# EAGLE library part 82532 (library micro-siemens)
MICROPROCESSOR/PERIPHERAL DEVICE
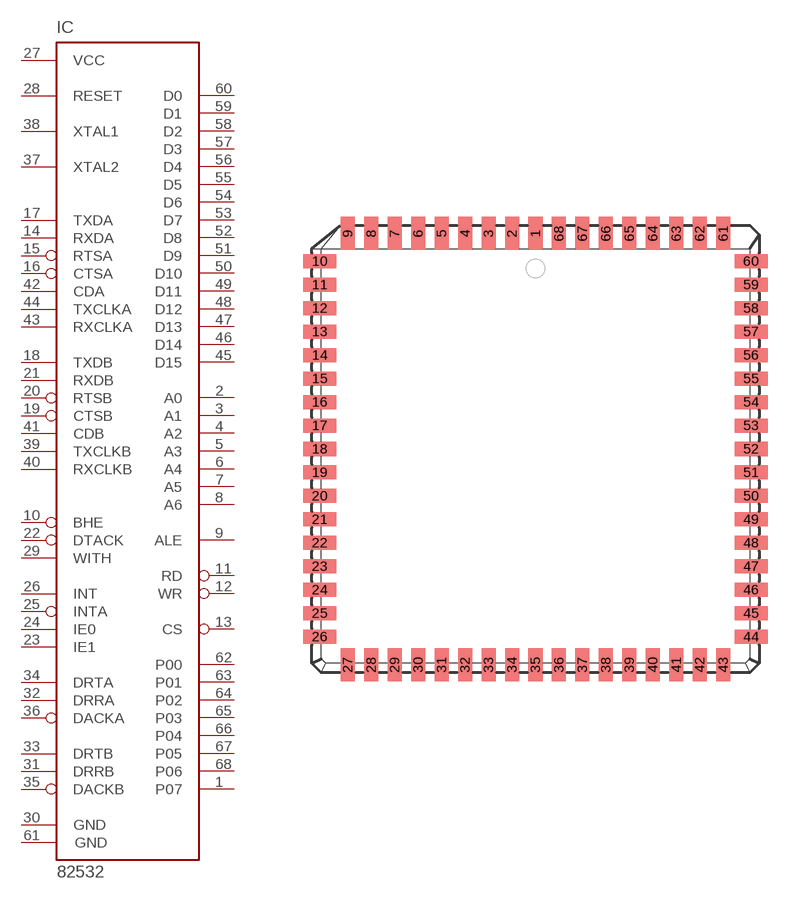
[diagram p45: symbol with the pads of PLCC68; footprint PLCC68]

Designator prefix IC

## 82532 (OC_FARNELL: unknown; OC_NEWARK: unknown)  [PLCC68]
1  P07
2  A0  in
3  A1  in
4  A2  in
5  A3  in
6  A4  in
7  A5  in
8  A6  in
9  ALE  in
10  BHE  in
11  RD  in
12  WR  in
13  CS  in
14  RXDA
15  RTSA  out
16  CTSA  in
17  TXDA
18  TXDB
19  CTSB  in
20  RTSB  out
21  RXDB
22  DTACK  out
23  IE1  in
24  IE0
25  INTA  in
26  INT  out
27  VCC  pwr
28  RESET  in
29  WITH  in
30  GND  pwr
31  DRRB  out
32  DRRA  out
33  DRTB  out
34  DRTA  out
35  DACKB  in
36  DACKA  in
37  XTAL2  pas
38  XTAL1  pas
39  TXCLKB
40  RXCLKB  in
41  CDB  in
42  CDA  in
43  RXCLKA  in
44  TXCLKA
45  D15
46  D14
47  D13
48  D12
49  D11
50  D10
51  D9
52  D8
53  D7
54  D6
55  D5
56  D4
57  D3
58  D2
59  D1
60  D0
61  GND  pwr
62  P00
63  P01
64  P02
65  P03
66  P04
67  P05
68  P06

## Footprint PLCC68 (pad centres in mm)
PLASTIC LEADED CHIP CARRIER square
smd 0.76 x 1.8: 1 0,11.67; 2 -1.27,11.67; 3 -2.54,11.67; 4 -3.81,11.67; 5 -5.08,11.67; 6 -6.35,11.67; 7 -7.62,11.67; 8 -8.89,11.67; 9 -10.16,11.67; 27 -10.16,-11.67; 28 -8.89,-11.67; 29 -7.62,-11.67; 30 -6.35,-11.67; 31 -5.08,-11.67; 32 -3.81,-11.67; 33 -2.54,-11.67; 34 -1.27,-11.67; 35 0,-11.67; 36 1.27,-11.67; 37 2.54,-11.67; 38 3.81,-11.67; 39 5.08,-11.67; 40 6.35,-11.67; 41 7.62,-11.67; 42 8.89,-11.67; 43 10.16,-11.67; 61 10.16,11.67; 62 8.89,11.67; 63 7.62,11.67; 64 6.35,11.67; 65 5.08,11.67; 66 3.81,11.67; 67 2.54,11.67; 68 1.27,11.67
smd 1.8 x 0.76: 10 -11.67,10.16; 11 -11.67,8.89; 12 -11.67,7.62; 13 -11.67,6.35; 14 -11.67,5.08; 15 -11.67,3.81; 16 -11.67,2.54; 17 -11.67,1.27; 18 -11.67,0; 19 -11.67,-1.27; 20 -11.67,-2.54; 21 -11.67,-3.81; 22 -11.67,-5.08; 23 -11.67,-6.35; 24 -11.67,-7.62; 25 -11.67,-8.89; 26 -11.67,-10.16; 44 11.67,-10.16; 45 11.67,-8.89; 46 11.67,-7.62; 47 11.67,-6.35; 48 11.67,-5.08; 49 11.67,-3.81; 50 11.67,-2.54; 51 11.67,-1.27; 52 11.67,0; 53 11.67,1.27; 54 11.67,2.54; 55 11.67,3.81; 56 11.67,5.08; 57 11.67,6.35; 58 11.67,7.62; 59 11.67,8.89; 60 11.67,10.16